# Altium schematic symbol library PZ_SCH_LIB_21Z.SchLib: 16 symbols
Pins are listed as number, name and electrical type; pins without a type are passive.

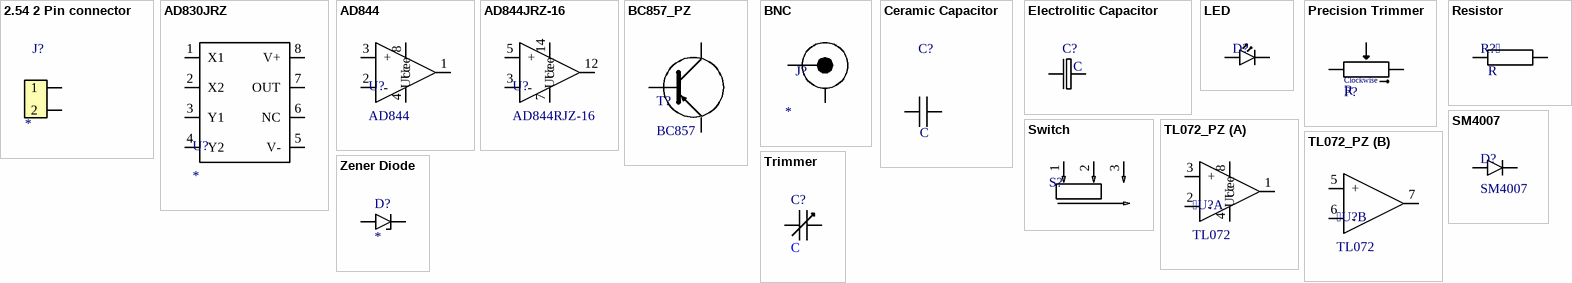
[diagram p0: symbols 2.54 2 Pin connector to Zener Diode]

## 2.54 2 Pin connector
designator J?
2.54 2 Pin connector; Function: *
footprint 2.54 2 pin connector
pins: 1, 2

## AD830JRZ
designator U?
High Speed Difference Amplifier
footprint SO08_PZ (SO-8 Package)
pins: 1 X1, 2 X2, 3 Y1, 4 Y2, 5 V-, 6 NC, 7 OUT, 8 V+

## AD844
designator U?
AD844 OPAMP
footprint SO08_PZ (SO-8 Package)
pins: 1, 2 -, 3 +, 4 Uee, 8 Ucc

## AD844JRZ-16
designator U?, comment AD844RJZ-16
AD844 OPAMP
footprint SOIC16 (SOIC, 16-Leads, Body 10,30x7,50mm, Pitch 1,27mm, IPC Medium Density)
pins: 3 -, 5 +, 7 Uee, 12, 14 Ucc

## BC857_PZ
designator T?, comment BC857
BC857 NPN Transistor
footprint SOT23 (SOT23, 3-Leads, Body 2,90x2,30mm, Pitch 0,95mm, IPC Medium Density)
pins: 1 B, 2 C, 3 E

## BNC
designator J?
BNC Connector; IN/OUT: *
footprint BNC Connector
pins: 1 Signal, 2 GND

## Ceramic Capacitor
designator C?  Capacitance: C  (hidden comment: *)
footprint 1206 package
pins: 1, 2

## Electrolitic Capacitor
designator C?  Capacitance: C
SMD Capacitor
footprint B package
pins: 1, 2

## LED
designator D?  (value not drawn)
SMD LED
footprint 1206 LED
pins: 1, 2

## Precision Trimmer
designator P?  Resistance: R  (hidden comment: *)
SMD Precicion Trimmer
footprint SM-42/43W
pins: 1, 2, 3
text: Clockwise

## Resistor
designator R?, comment Resistance: R  (hidden comment: SMD Resistor)
footprint 1206 package
pins: 1, 2

## SM4007
designator D?
Rectifier diode
footprint DO-213AB package
pins: 1 A, 2 K

## Switch
designator S?  (value not drawn)
JS102011JCQN SMD switch
footprint JS102011JCQN
pins: 1, 2, 3

## TL072_PZ
designator U?, comment TL072
TL072CD-T Dual OPAMP
footprint SO 08 (SOIC, 8-Leads, Body 4,90x3,90mm, Pitch 1,27mm, IPC Medium Density)
part A pins: 1, 2 -, 3 +, 4 Uee, 8 Ucc
part B pins: 5 +, 6 -, 7

## Trimmer
designator C?  Capacitance: C  (hidden comment: *)
Adjustable Capacitor
footprint Trimmer Capacitor
pins: 1, 2

## Zener Diode
designator D?  (value not drawn)
Model: model; UR: *
footprint SOD80C
pins: 1 A, 2 K